# Altium footprint library Wurth_Elektronik_Passive_rev16a.PCBLIB: 810 footprints (part 39 of 51)
Each footprint in its own frame and in the unit in brackets; x right, y up, seen from the top. Pads: shape width x height; smd on the part's side, far side on the other; paste and mask are expansions set on the pad; w line width, h text height; cw(c..) or ccw(c..) is an arc to the next point about the centre after c.
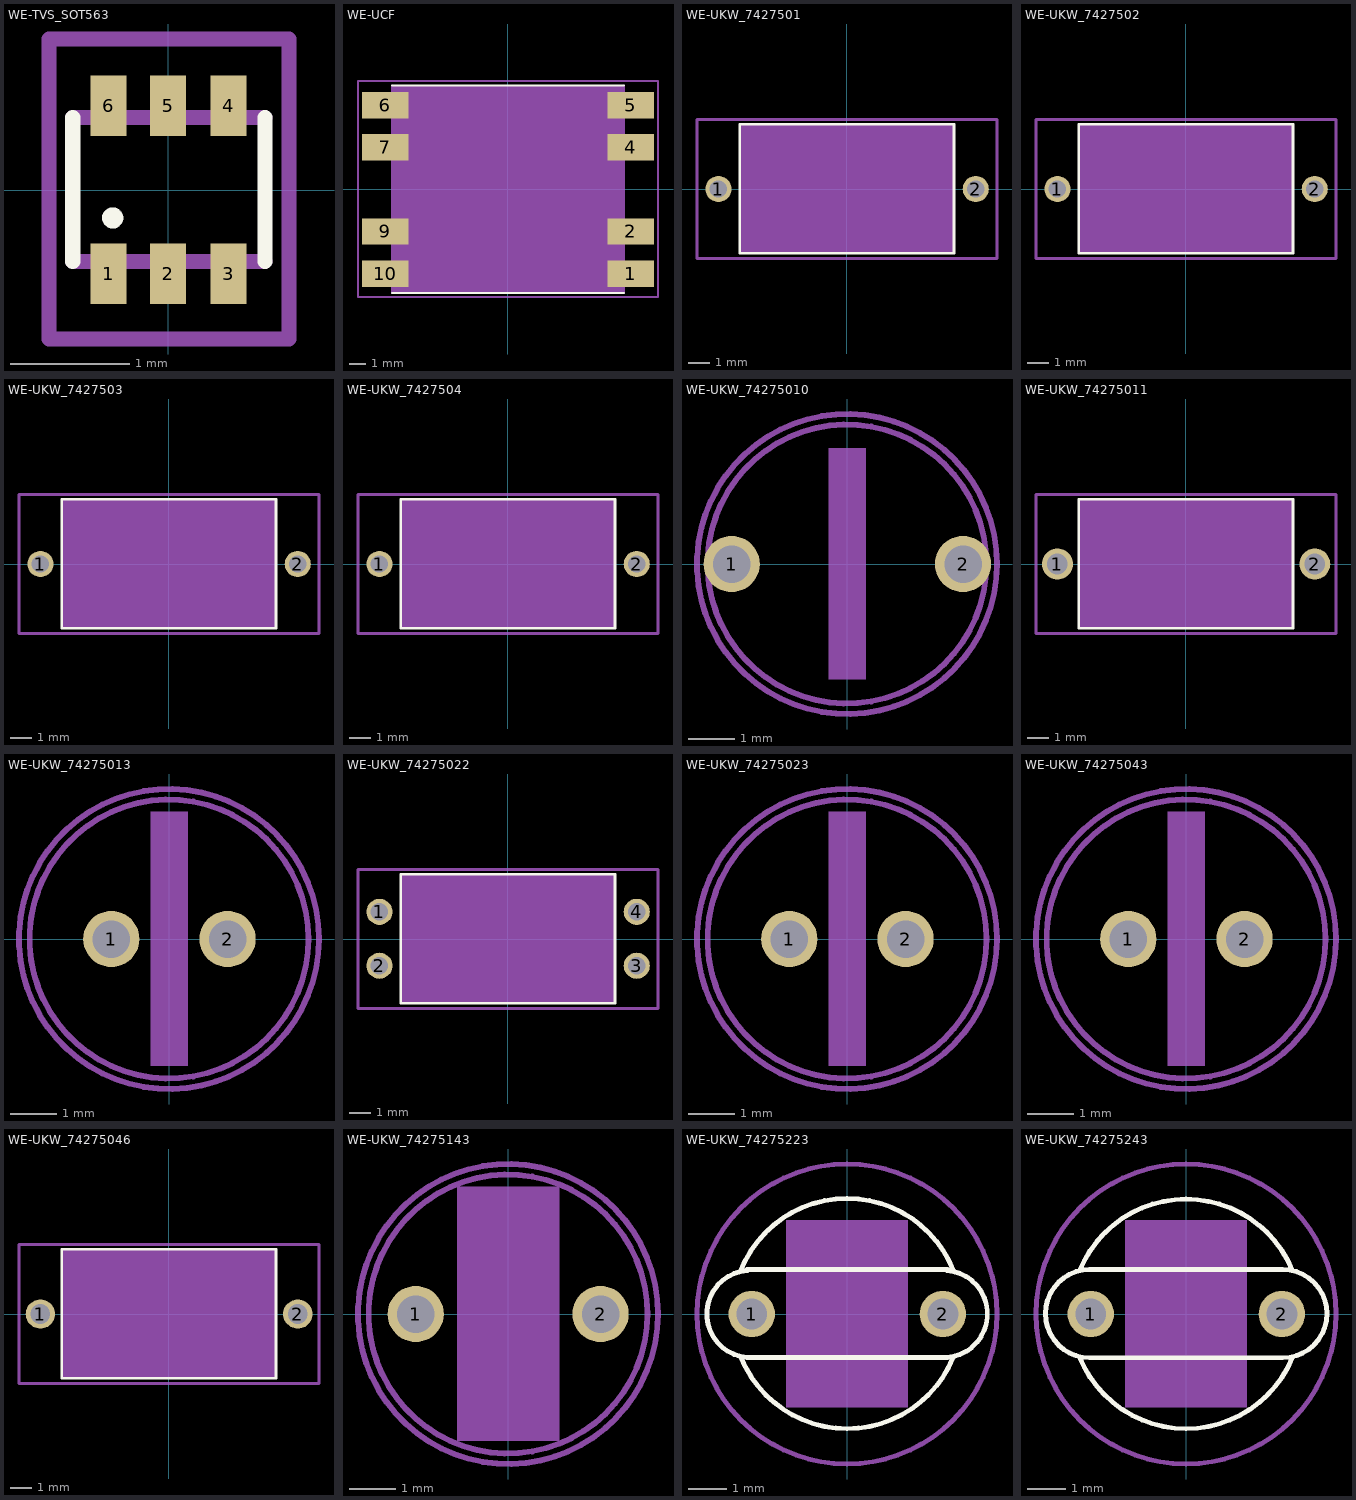
[diagram p38: the footprints below, top view; thin cyan lines are the x and y axes]

## WE-TVS_SOT563 [mil]
pads (6):
  rect 12x20 smd: 1(-19.68,-27.56) 2(0,-27.56) 3(20,-27.56) 4(20,28) 5(0,28) 6(-19.68,28)
Top Overlay:
  circle w5: c-18.31,-9.17 r1
  lines w5: -31.5,-23.62 -31.5,24 ; 32,-23.62 32,24
Mechanical 2:
  text ">NAME" at -76.38,53 h77.5
Mechanical 4:
  text ">VALUE" at -76.38,-102.44 h77.5
Mechanical 16:
  lines w5: -31.5,-23.62 32,-23.62 ; -31.5,24 32,24
Mechanical 27:
  lines w5: -39.37,-49.21 40,-49.21 40,50 -39.37,50 -39.37,-49.21

## WE-UCF [mil]
pads (8):
  rect 111x63 smd: 1(292,-200) 2(292,-100) 4(292,100) 5(292,200) 6(-291.34,200) 7(-291.34,100) 9(-291.34,-100) 10(-291.34,-200)
Top Overlay:
  lines w5: -275.59,-246.06 276,-246.06 ; -275.59,247 276,247
Mechanical 2:
  text ">NAME" at -350,300 h77.5
Mechanical 4:
  text ">VALUE" at -350,-350 h77.5
Mechanical 10:
  rectangle: -275.59,-246.06 276,247
Mechanical 16:
  lines w5: -275.59,-246.06 -275.59,247 ; 276,-246.06 276,247
Mechanical 27:
  lines w5: -356.3,256 -356.3,-255.91 357,-255.91 357,256 ; -356.3,258 357,258

## WE-UKW_7427501 [mil]
pads (2):
  round 48 hole 32: 1(-236.22,0) 2(237,0)
Top Overlay:
  lines w5: -196.85,-118.11 -196.85,119 197,119 197,-118.11 -196.85,-118.11
Mechanical 2:
  text ">NAME" at -300,150 h77.5
  text ">VALUE" at -300,-200 h77.5
Mechanical 10:
  rectangle: -196.85,-118.11 197,119
Mechanical 27:
  lines w5: -275.59,-127.95 -275.59,128 276,128 276,-127.95 -275.59,-127.95

## WE-UKW_7427502 [mil]
pads (2):
  round 48 hole 32: 1(-236.22,0) 2(237,0)
Top Overlay:
  lines w5: -196.85,-118.11 -196.85,119 197,119 197,-118.11 -196.85,-118.11
Mechanical 2:
  text ">NAME" at -300,150 h77.5
  text ">VALUE" at -300,-200 h77.5
Mechanical 10:
  rectangle: -196.85,-118.11 197,119
Mechanical 27:
  lines w5: -275.59,-127.95 -275.59,128 276,128 276,-127.95 -275.59,-127.95

## WE-UKW_7427503 [mil]
pads (2):
  round 48 hole 32: 1(-236.22,0) 2(237,0)
Top Overlay:
  lines w5: -196.85,-118.11 -196.85,119 197,119 197,-118.11 -196.85,-118.11
Mechanical 2:
  text ">NAME" at -300,150 h77.5
  text ">VALUE" at -300,-200 h77.5
Mechanical 10:
  rectangle: -196.85,-118.11 197,119
Mechanical 27:
  lines w5: -275.59,-127.95 -275.59,128 276,128 276,-127.95 -275.59,-127.95

## WE-UKW_7427504 [mil]
pads (2):
  round 48 hole 32: 1(-236.22,0) 2(237,0)
Top Overlay:
  lines w5: -196.85,-118.11 -196.85,119 197,119 197,-118.11 -196.85,-118.11
Mechanical 2:
  text ">NAME" at -300,150 h77.5
  text ">VALUE" at -300,-200 h77.5
Mechanical 10:
  rectangle: -196.85,-118.11 197,119
Mechanical 27:
  lines w5: -275.59,-127.95 -275.59,128 276,128 276,-127.95 -275.59,-127.95

## WE-UKW_74275010 [mil]
pads (2):
  round 48 hole 32: 1(-98.43,0) 2(99,0)
Mechanical 2:
  text ">NAME" at -100,150 h77.5
  text ">VALUE" at -100,-200 h77.5
Mechanical 10:
  rectangle: -15.75,-98.43 16,99
Mechanical 16:
  circle w5: c0,0 r119
Mechanical 27:
  circle w5: c0,0 r128

## WE-UKW_74275011 [mil]
pads (2):
  round 57 hole 38: 1(-236.22,0) 2(237,0)
Top Overlay:
  lines w5: -196.85,-118.11 -196.85,119 197,119 197,-118.11 -196.85,-118.11
Mechanical 2:
  text ">NAME" at -300,150 h77.5
Mechanical 4:
  text ">VALUE" at -300,-200 h77.5
Mechanical 10:
  rectangle: -196.85,-118.11 197,119
Mechanical 27:
  lines w5: -275.59,-127.95 -275.59,128 276,128 276,-127.95 -275.59,-127.95

## WE-UKW_74275013 [mil]
pads (2):
  round 48 hole 32: 1(-49.21,0) 2(50,0)
Mechanical 2:
  text ">NAME" at -100,150 h77.5
Mechanical 4:
  circle w5: c0,0 r119
  text ">VALUE" at -100,-200 h77.5
Mechanical 10:
  rectangle: -15.75,-108.27 16,109
Mechanical 27:
  circle w5: c0,0 r128

## WE-UKW_74275022 [mil]
pads (4):
  round 48 hole 32: 1(-236.22,50) 2(-236.22,-49.21) 3(237,-49.21) 4(237,50)
Top Overlay:
  lines w5: -196.85,-118.11 -196.85,119 197,119 197,-118.11 -196.85,-118.11
Mechanical 2:
  text ">NAME" at -300,150 h77.5
  text ">VALUE" at -300,-200 h77.5
Mechanical 10:
  rectangle: -196.85,-118.11 197,119
Mechanical 27:
  lines w5: -275.59,-127.95 -275.59,128 276,128 276,-127.95 -275.59,-127.95

## WE-UKW_74275023 [mil]
pads (2):
  round 48 hole 32: 1(-49.21,0) 2(50,0)
Mechanical 2:
  text ">NAME" at -100,150 h77.5
Mechanical 4:
  circle w5: c0,0 r119
  text ">VALUE" at -100,-200 h77.5
Mechanical 10:
  rectangle: -15.75,-108.27 16,109
Mechanical 27:
  circle w5: c0,0 r128

## WE-UKW_74275043 [mil]
pads (2):
  round 48 hole 32: 1(-49.21,0) 2(50,0)
Mechanical 2:
  text ">NAME" at -100,150 h77.5
Mechanical 4:
  circle w5: c0,0 r119
  text ">VALUE" at -100,-200 h77.5
Mechanical 10:
  rectangle: -15.75,-108.27 16,109
Mechanical 27:
  circle w5: c0,0 r128

## WE-UKW_74275046 [mil]
pads (2):
  round 54 hole 36: 1(-236.22,0) 2(237,0)
Top Overlay:
  lines w5: -196.85,-118.11 -196.85,119 197,119 197,-118.11 -196.85,-118.11
Mechanical 2:
  text ">NAME" at -300,150 h77.5
Mechanical 4:
  text ">VALUE" at -300,-200 h77.5
Mechanical 10:
  rectangle: -196.85,-118.11 197,119
Mechanical 27:
  lines w5: -275.59,-127.95 -275.59,128 276,128 276,-127.95 -275.59,-127.95

## WE-UKW_74275143 [mil]
pads (2):
  round 48 hole 32: 1(-78.74,0) 2(79,0)
Mechanical 2:
  text ">NAME" at -100,150 h77.5
Mechanical 4:
  circle w5: c0,0 r119
  text ">VALUE" at -100,-200 h77.5
Mechanical 10:
  rectangle: -43.31,-108.27 44,109
Mechanical 27:
  circle w5: c0,0 r128

## WE-UKW_74275223 [mil]
pads (2):
  round 48 hole 32: 1(-98.43,0) 2(99,0)
Top Overlay:
  lines w5: -109.84,-44.09 ccw(c0.08,-0.17) 110,-44.09 ; -109.84,45 cw(c0.08,1.07) 110,45 ; -103.35,-45.08 104,-45.08 ; -103.35,46 104,46 ; -102.76,-44.88 cw(c-99.81,0.06) -102.76,45 ; 103,-44.88 ccw(c100.06,0.06) 103,45
Mechanical 2:
  text ">NAME" at -131.89,187 h77.5
Mechanical 4:
  text ">VALUE" at -105.91,-239.37 h77.5
Mechanical 10:
  rectangle: -62.99,-96.46 63,97
Mechanical 27:
  circle w5: c0,0 r155

## WE-UKW_74275243 [mil]
pads (2):
  round 48 hole 32: 1(-98.43,0) 2(99,0)
Top Overlay:
  lines w5: -109.84,-44.88 ccw(c0.08,0.27) 110,-44.88 ; -109.84,45 cw(c0.08,-0.16) 110,45 ; -99.61,-45.28 100,-45.28 ccw(c100,0.36) 100,46 -99.61,46 ccw(c-99.61,0.36) -99.61,-45.28
Mechanical 2:
  text ">NAME" at -131.89,187 h77.5
Mechanical 4:
  text ">VALUE" at -105.91,-239.37 h77.5
Mechanical 10:
  rectangle: -62.99,-96.46 63,97
Mechanical 27:
  circle w5: c0,0 r155